# EAGLE library part TB67S109AFTG,EL (library TB67S109AFTG_QFN)
Motor / Motion / Ignition Controllers & Drivers STEPPER MOTOR DRIVER 4A STEP RESOLUTION Source: Datasheet <https://toshiba.semicon-storage.com/info/docget.jsp?did=14642&prodName=TB67S109AFTG>
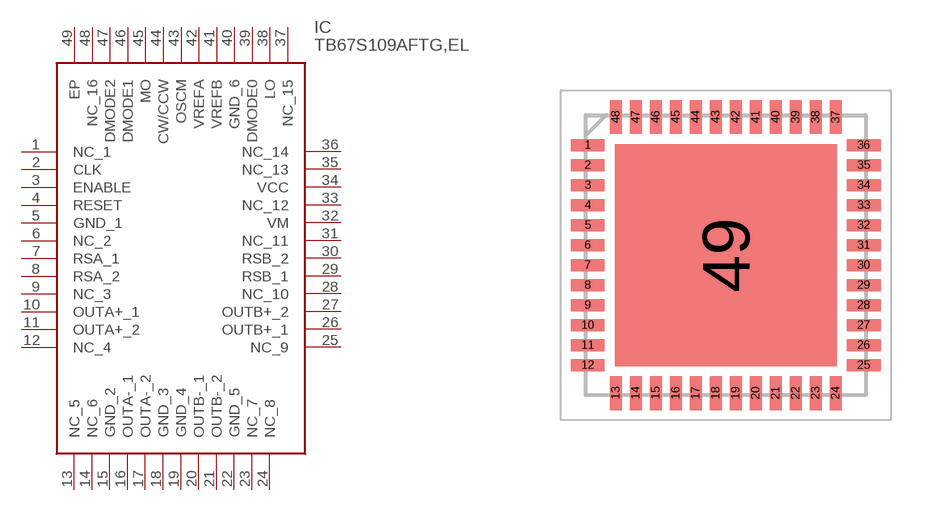
[diagram p0: symbol with the pads of QFN50P700X700X75-49N; footprint QFN50P700X700X75-49N]

Designator prefix IC

## TB67S109AFTG,EL (DESCRIPTION: Motor / Motion / Ignition Controllers & Drivers STEPPER MOTOR DRIVER 4A STEP RESOLUTION; HEIGHT: 0.75mm; MANUFACTURER_NAME: Toshiba; MANUFACTURER_PART_NUMBER: TB67S109AFTG,EL; MOUSER_PART_NUMBER: 757-TB67S109AFTGEL; MOUSER_PRICE-STOCK: https://www.mouser.com/Search/Refine.aspx?Keyword=757-TB67S109AFTGEL)  [QFN50P700X700X75-49N]
1  NC_1
2  CLK
3  ENABLE
4  RESET
5  GND_1
6  NC_2
7  RSA_1
8  RSA_2
9  NC_3
10  OUTA+_1
11  OUTA+_2
12  NC_4
13  NC_5
14  NC_6
15  GND_2
16  OUTA-_1
17  OUTA-_2
18  GND_3
19  GND_4
20  OUTB-_1
21  OUTB-_2
22  GND_5
23  NC_7
24  NC_8
25  NC_9
26  OUTB+_1
27  OUTB+_2
28  NC_10
29  RSB_1
30  RSB_2
31  NC_11
32  VM
33  NC_12
34  VCC
35  NC_13
36  NC_14
37  NC_15
38  LO
39  DMODE0
40  GND_6
41  VREFB
42  VREFA
43  OSCM
44  CW/CCW
45  MO
46  DMODE1
47  DMODE2
48  NC_16
49  EP

## Footprint QFN50P700X700X75-49N (pad centres in mm)
P-WQFN48-0707-0.50-003
smd 0.85 x 0.3: 1 -3.45,2.75; 2 -3.45,2.25; 3 -3.45,1.75; 4 -3.45,1.25; 5 -3.45,0.75; 6 -3.45,0.25; 7 -3.45,-0.25; 8 -3.45,-0.75; 9 -3.45,-1.25; 10 -3.45,-1.75; 11 -3.45,-2.25; 12 -3.45,-2.75; 25 3.45,-2.75; 26 3.45,-2.25; 27 3.45,-1.75; 28 3.45,-1.25; 29 3.45,-0.75; 30 3.45,-0.25; 31 3.45,0.25; 32 3.45,0.75; 33 3.45,1.25; 34 3.45,1.75; 35 3.45,2.25; 36 3.45,2.75
smd 0.3 x 0.85: 13 -2.75,-3.45; 14 -2.25,-3.45; 15 -1.75,-3.45; 16 -1.25,-3.45; 17 -0.75,-3.45; 18 -0.25,-3.45; 19 0.25,-3.45; 20 0.75,-3.45; 21 1.25,-3.45; 22 1.75,-3.45; 23 2.25,-3.45; 24 2.75,-3.45; 37 2.75,3.45; 38 2.25,3.45; 39 1.75,3.45; 40 1.25,3.45; 41 0.75,3.45; 42 0.25,3.45; 43 -0.25,3.45; 44 -0.75,3.45; 45 -1.25,3.45; 46 -1.75,3.45; 47 -2.25,3.45; 48 -2.75,3.45
smd 5.55 x 5.55: 49 0,0